# Altium footprint library SOT23-6.PcbLib: 1 footprints
Each footprint in its own frame and in the unit in brackets; x right, y up, seen from the top. Pads: shape width x height; smd on the part's side, far side on the other; paste and mask are expansions set on the pad; w line width, h text height; cw(c..) or ccw(c..) is an arc to the next point about the centre after c.
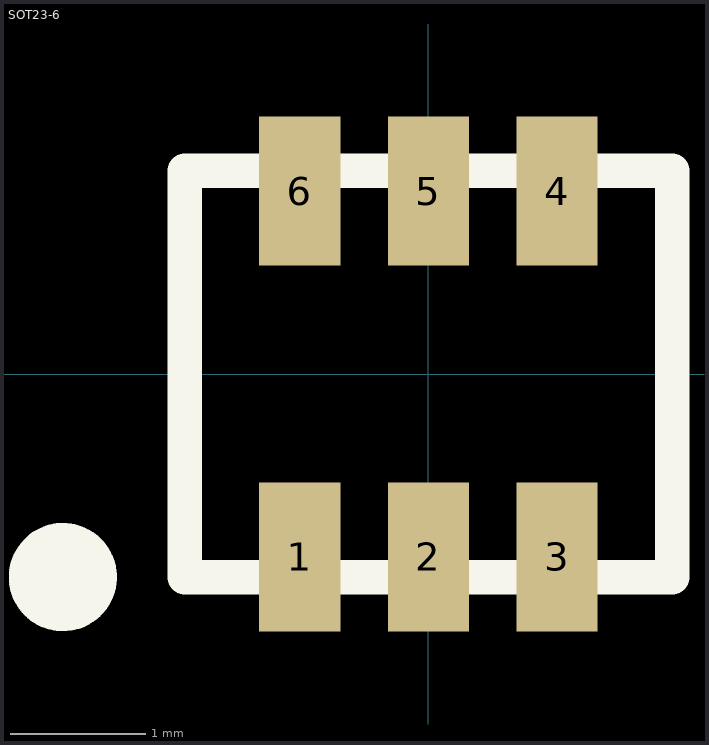
[diagram p0: the footprint, top view; thin cyan lines are the x and y axes]

## SOT23-6 [mm]
pads (6):
  rect 0.6x1.1 smd: 1(-0.95,-1.35) 2(0,-1.35) 3(0.95,-1.35) 4(0.95,1.35) 5(0,1.35) 6(-0.95,1.35)
Top Overlay:
  circle w0.4: c-2.7,-1.5 r0.2
  lines w0.254: -1.8,-1.5 -1.8,1.5 1.8,1.5 1.8,-1.5 -1.8,-1.5
3D body "SOT23-6L_STM.step": height 1.45, standoff 0, extent -1.524,-1.499 1.524,1.499